# Altium schematic symbol library BH-9V-3P.SchLib: 1 symbol
Pins are listed as number, name and electrical type; pins without a type are passive.

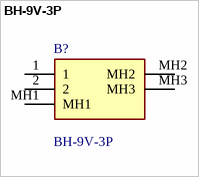
[diagram p0: symbol BH-9V-3P]

## BH-9V-3P
designator B?
Takachi Electric Industrial 9V PP3 Battery Holder, Plug in Contact; Geometry.Height: 20.7mm; Manufacturer_Name: Takachi Electric Industrial; Manufacturer_Part_Number: BH-9V-3P; Mouser Part Number: *; Mouser Price/Stock: *; Arrow Part Number: *; Arrow Price/Stock: *; Datasheet Link: *
footprint BH9V3P
pins: 1, 2, MH1, MH2, MH3